# Altium schematic symbol library RC0805FR13270RL.SchLib: 1 symbol
Pins are listed as number, name and electrical type; pins without a type are passive.

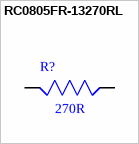
[diagram p0: symbol RC0805FR-13270RL]

## RC0805FR-13270RL
designator R?, comment 270R
MF: {'manufacturer': u'Yageo Corporation'}; MP: RC0805FR-13270RL; Package: None; Price: None; Value: 270R; Availability: Unavailable
footprint RESC2012X60N
pins: 1, 2